# Altium schematic symbol library MY_PCBlib.SchLib: 48 symbols
Pins are listed as number, name and electrical type; pins without a type are passive.

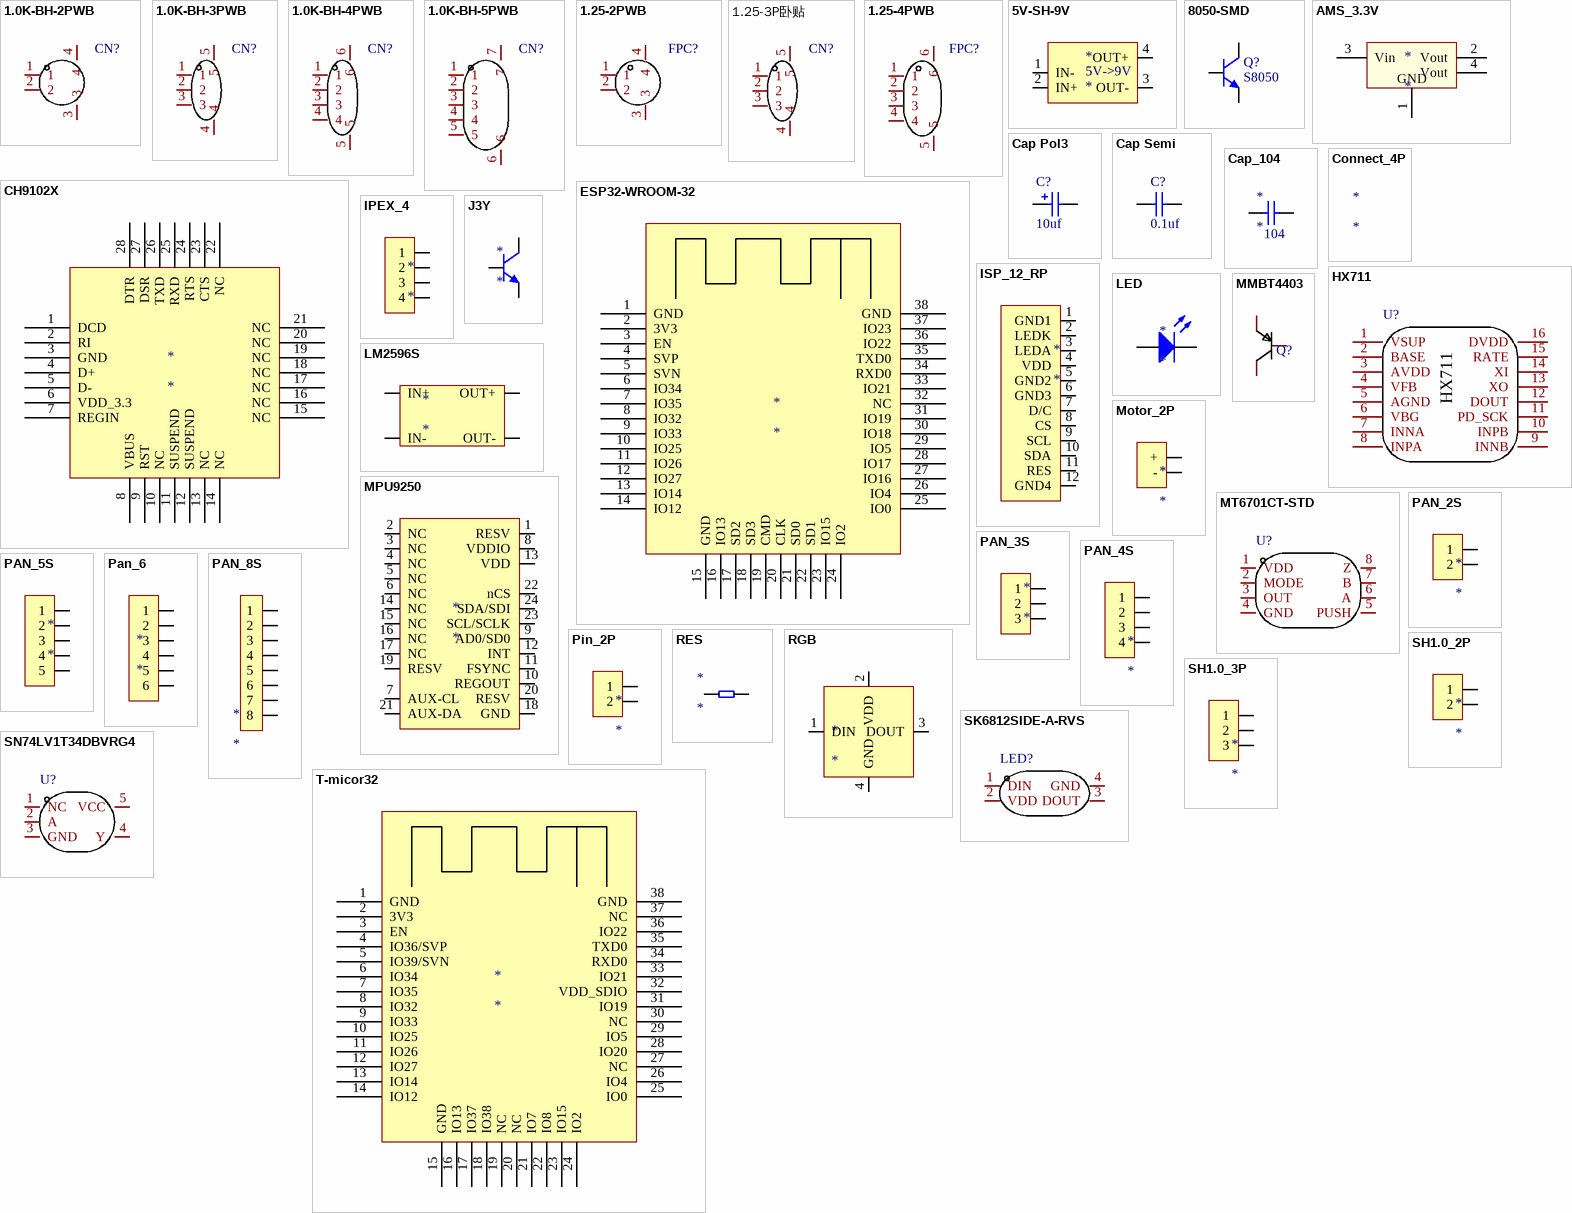
[diagram p0: symbols 1.0K-BH-2PWB to T-micor32]

## 1.0K-BH-2PWB
designator CN?  (value not drawn)
参考系列:-;间距:1mm;插针结构:1x2P;排数:1;每排PIN数:2;行距:-;公母:公型插针;安装方式:卧贴;额定电流:1A;工作温度范围:-25~+85;; Manufacturer: HDGC(华德共创); Add into BOM: yes; Pitch: 1mm; Pins Structure: 1x2P; Number of PINs Per Row: 2; Gender: 公型插针; Current Rating (Max): 1A; Name: 1.0K-BH-2PWB; Symbol: 1.0K-BH-2PWB; Device: 1.0K-BH-2PWB; LCSC Part Name: 1x2P 间距P=1.0mm 卧贴 SMT; Supplier Part: C2919603; Manufacturer Part: 1.0K-BH-2PWB; Supplier Footprint: SMD,P=1mm; Datasheet: https://atta.szlcsc.com/upload/public/pdf/source/20211115/0C4A9B301513FDEAA34F959002791CED.pdf; Supplier: LCSC; Convert to PCB: yes; Reference Series: -; Number of Rows: 1; Row Spacing: -; Mounting Style: 卧贴; Operating Temperature Range: -25~+85
footprint CONN-SMD_2P-P1.00_HDGC_1.0K-BH-2PWB
3D model CONN-SMD_2P-P1.00_HDGC_1.0K-BH-2PWB
footprint 1.00_2PWB
pins: 1, 2, 3, 4

## 1.0K-BH-3PWB
designator CN?  (value not drawn)
参考系列:-;间距:1mm;插针结构:1x3P;排数:1;每排PIN数:3;行距:-;公母:公型插针;安装方式:卧贴;额定电流:1A;工作温度范围:-25~+85;; Manufacturer: HDGC(华德共创); Add into BOM: yes; Pitch: 1mm; Pins Structure: 1x3P; Number of PINs Per Row: 3; Gender: 公型插针; Current Rating (Max): 1A; Name: 1.0K-BH-3PWB; Symbol: 1.0K-BH-3PWB; Device: 1.0K-BH-3PWB; LCSC Part Name: 1x3P 间距P=1.0mm 卧贴 SMT; Supplier Part: C2919604; Manufacturer Part: 1.0K-BH-3PWB; Supplier Footprint: SMD,P=1mm; JLCPCB Part Class: Extended Part; Datasheet: https://atta.szlcsc.com/upload/public/pdf/source/20211115/0C4A9B301513FDEAA34F959002791CED.pdf; Supplier: LCSC; Convert to PCB: yes; Reference Series: -; Number of Rows: 1; Row Spacing: -; Mounting Style: 卧贴; Operating Temperature Range: -25~+85
footprint CONN-SMD_3P-P1.00_HDGC_1.0K-BH-3PWB
3D model CONN-SMD_3P-P1.00_HDGC_1.0K-BH-3PWB
footprint 1.00_3PWB
pins: 1, 2, 3, 4, 5

## 1.0K-BH-4PWB
designator CN?  (value not drawn)
参考系列:-;间距:1mm;插针结构:1x4P;排数:1;每排PIN数:4;行距:-;公母:公型插针;安装方式:卧贴;额定电流:1A;工作温度范围:-25~+85;; Manufacturer: HDGC(华德共创); Add into BOM: yes; Pitch: 1mm; Pins Structure: 1x4P; Number of PINs Per Row: 4; Gender: 公型插针; Current Rating (Max): 1A; Name: 1.0K-BH-4PWB; Symbol: 1.0K-BH-4PWB; Device: 1.0K-BH-4PWB; LCSC Part Name: 1x4P 间距P=1.0mm 卧贴 SMT; Supplier Part: C2919605; Manufacturer Part: 1.0K-BH-4PWB; Supplier Footprint: SMD,P=1mm; JLCPCB Part Class: Extended Part; Datasheet: https://atta.szlcsc.com/upload/public/pdf/source/20211115/0C4A9B301513FDEAA34F959002791CED.pdf; Supplier: LCSC; Convert to PCB: yes; Reference Series: -; Number of Rows: 1; Row Spacing: -; Mounting Style: 卧贴; Operating Temperature Range: -25~+85
footprint CONN-SMD_4P-P1.00_HDGC_1.0K-BH-4PWB
3D model CONN-SMD_4P-P1.00_HDGC_1.0K-BH-4PWB
footprint 1.00_4PWB
pins: 1, 2, 3, 4, 5, 6

## 1.0K-BH-5PWB
designator CN?  (value not drawn)
参考系列:-;间距:1mm;插针结构:1x5P;排数:1;每排PIN数:5;行距:-;公母:公型插针;安装方式:卧贴;额定电流:1A;工作温度范围:-25~+85;; Manufacturer: HDGC(华德共创); Add into BOM: yes; Pitch: 1mm; Pins Structure: 1x5P; Number of PINs Per Row: 5; Gender: 公型插针; Current Rating (Max): 1A; Name: 1.0K-BH-5PWB; Symbol: 1.0K-BH-5PWB; Device: 1.0K-BH-5PWB; LCSC Part Name: 1x5P 间距P=1.0mm 卧贴 SMT; Supplier Part: C2919606; Manufacturer Part: 1.0K-BH-5PWB; Supplier Footprint: SMD,P=1mm; JLCPCB Part Class: Extended Part; Datasheet: https://atta.szlcsc.com/upload/public/pdf/source/20211115/0C4A9B301513FDEAA34F959002791CED.pdf; Supplier: LCSC; Convert to PCB: yes; Reference Series: -; Number of Rows: 1; Row Spacing: -; Mounting Style: 卧贴; Operating Temperature Range: -25~+85
footprint CONN-SMD_5P-P1.00_HDGC_1.0K-BH-5PWB
3D model CONN-SMD_5P-P1.00_HDGC_1.0K-BH-5PWB
footprint 1.00_5PWB
pins: 1, 2, 3, 4, 5, 6, 7

## 1.25-2PWB
designator FPC?  (value not drawn)
参考系列:-;间距:1.25mm;插针结构:1x2P;排数:1;每排PIN数:2;行距:-;公母:公型插针;安装方式:卧贴;额定电流:-;工作温度范围:-40~+85;; Manufacturer: DEALON(德艺隆); Add into BOM: yes; Pitch: 1.25mm; Pins Structure: 1x2P; Number of PINs Per Row: 2; Gender: 公型插针; Name: 1.25-2PWB; Symbol: 1.25-2PWB; Device: 1.25-2PWB; LCSC Part Name: 1.25mm 1x2P 卧贴; Supplier Part: C2905009; Manufacturer Part: 1.25-2PWB; Supplier Footprint: SMD,P=1.25mm; JLCPCB Part Class: Extended Part; Datasheet: https://atta.szlcsc.com/upload/public/pdf/source/20211025/32B11FCE5054D08D2841E43E3DE676AA.pdf; Supplier: LCSC; Convert to PCB: yes; Reference Series: -; Number of Rows: 1; Row Spacing: -; Mounting Style: 卧贴; Current Rating (Max): -; Operating Temperature Range: -40~+85
footprint CONN-SMD_2P-P1.25_DEALON_1.25-2PWB
3D model CONN-SMD_2P-P1.25_DEALON_1.25-2PWB
footprint 1.25_2PWB
pins: 1, 2, 3, 4

## 1.25-3P卧贴
designator CN?  (value not drawn)
参考系列:-;间距:1.25mm;插针结构:1x3P;排数:1;每排PIN数:3;行距:-;安装方式:-;触头材质:磷青铜;; Manufacturer: BOOMELE(博穆精密); Name: 1.25T-3P卧贴; Symbol: 1.25T-3PWT; Add into BOM: yes; Pitch: 1.25mm; Pins Structure: 1x3P; Number of PINs Per Row: 3; Device: 1.25T-3P卧贴; LCSC Part Name: 1.25T-3PWT; Supplier Part: C22075; Manufacturer Part: 1.25T-3P卧贴; Supplier Footprint: SMD,P=1.25mm; JLCPCB Part Class: Extended Part; Datasheet: https://atta.szlcsc.com/upload/public/pdf/source/20160218/1457707760133.pdf; Supplier: LCSC; Convert to PCB: yes; Reference Series: -; Number of Rows: 1; Row Spacing: -; Mounting Style: -; Contact Material: 磷青铜
footprint CONN-SMD_3P-P1.25_1.25T-3PWT
3D model CONN-SMD_MX1.25-WS-3P
footprint 1.25_3PWT
pins: 1, 2, 3, 4, 5

## 1.25-4PWB
designator FPC?  (value not drawn)
参考系列:-;间距:1.25mm;插针结构:1x4P;排数:1;每排PIN数:4;行距:-;公母:公型插针;安装方式:卧贴;额定电流:-;工作温度范围:-40~+85;; Manufacturer: DEALON(德艺隆); Add into BOM: yes; Pitch: 1.25mm; Pins Structure: 1x4P; Number of PINs Per Row: 4; Gender: 公型插针; Name: 1.25-4PWB; Symbol: 1.25-4PWB; Device: 1.25-4PWB; LCSC Part Name: 1.25mm 1x4P 卧贴; Supplier Part: C2905011; Manufacturer Part: 1.25-4PWB; Supplier Footprint: SMD,P=1.25mm; JLCPCB Part Class: Extended Part; Datasheet: https://atta.szlcsc.com/upload/public/pdf/source/20211025/32B11FCE5054D08D2841E43E3DE676AA.pdf; Supplier: LCSC; Convert to PCB: yes; Reference Series: -; Number of Rows: 1; Row Spacing: -; Mounting Style: 卧贴; Current Rating (Max): -; Operating Temperature Range: -40~+85
footprint CONN-SMD_1.25-4PWB
3D model CONN-SMD_1.25-4PWB
footprint 1.25-4PWB
pins: 1, 2, 3, 4, 5, 6

## 5V-SH-9V
designator *
footprint 5V-SH-9V
pins: 1 IN-, 2 IN+, 3 OUT-, 4 OUT+
text: 5V->9V

## 8050-SMD
designator Q?, comment S8050
高频放大-NPN型; 版权归属: 源创客; 属性: 40V 1.5A 1W 100MHZ; BOM名称: 高频放大-NPN型; 学习资源: www.ooocke.com
footprint J3Y
pins: 1 B, 2 E, 3 C

## AMS_3.3V
designator *
footprint SOT-223(AMS1117-3.3)
pins: 1 GND, 2 Vout, 3 Vin, 4 Vout

## Cap Pol3
designator C?  value 10uf  (hidden comment: Cap Pol3)
Polarized Capacitor (Surface Mount); Published: 8-Jun-2000; LatestRevisionDate: 29-May-2009; LatestRevisionNote: IPC-7351 Footprint Added.; PackageReference: C0805; Publisher: Altium Limited; PackageDescription: Chip Capacitor
footprint C0805 (Chip Capacitor, Body 2.0x1.3mm, IPC High Density)
footprint 1812 (Chip Capacitor, Body 4.5x3.2mm, IPC High Density)
footprint 1825 (Chip Capacitor, Body 4.5x6.4mm, IPC High Density)
footprint C2225 (Chip Capacitor, Body 5.7x6.4mm, IPC High Density)
footprint 2220 (Chip Capacitor, Body 5.7x5.0mm, IPC High Density)
simulation model CAP (Capacitor)
signal-integrity model Cap Pol
footprint C1206 (Chip Capacitor, Body 3.2x1.6mm, IPC High Density)
footprint R 0603_M (1/10W贴片电阻)
pins: 1, 2
1 alternate drawing of the same symbol

## Cap Semi
designator C?  value 0.1uf  (hidden comment: Cap Semi)
Capacitor (Semiconductor SIM Model); Published: 8-Jun-2000; LatestRevisionDate: 29-May-2009; LatestRevisionNote: IPC-7351 Footprint Added.; PackageReference: C1206; Publisher: Altium Limited; PackageDescription: Chip Capacitor
footprint C1206 (Chip Capacitor, Body 3.2x1.6mm, IPC High Density)
footprint 0402 (Chip Capacitor, Body 1.0x0.5mm, IPC High Density)
footprint C2512 (Chip Capacitor, Body 2.54x1.27mm, IPC High Density)
footprint 1608[0603] (Chip Capacitor, Body 1.6x0.8mm, IPC High Density)
footprint C1210 (Chip Capacitor, Body 3.2x2.5mm, IPC High Density)
simulation model CAP (Semiconductor Capacitor)
signal-integrity model Cap Semi
footprint R 0603_M (1/10W贴片电阻)
pins: 1, 2

## Cap_104
designator *
pins: 1, 2
text: 104

## CH9102X
designator *
footprint CP2102
pins: 1 DCD, 2 RI, 3 GND, 4 D+, 5 D-, 6 VDD_3.3, 7 REGIN, 8 VBUS, 9 RST, 10 NC, 11 SUSPEND, 12 SUSPEND, 13 NC, 14 NC, 15 NC, 16 NC, 17 NC, 18 NC, 19 NC, 20 NC, 21 NC, 22 NC, 23 CTS, 24 RTS, 25 RXD, 26 TXD, 27 DSR, 28 DTR

## Connect_4P
designator *

## ESP32-WROOM-32
designator *
footprint ESP32-WROOM-32D
pins: 1 GND, 2 3V3, 3 EN, 4 SVP, 5 SVN, 6 IO34, 7 IO35, 8 IO32, 9 IO33, 10 IO25, 11 IO26, 12 IO27, 13 IO14, 14 IO12, 15 GND, 16 IO13, 17 SD2, 18 SD3, 19 CMD, 20 CLK, 21 SD0, 22 SD1, 23 IO15, 24 IO2, 25 IO0, 26 IO4, 27 IO16, 28 IO17, 29 IO5, 30 IO18, 31 IO19, 32 NC, 33 IO21, 34 RXD0, 35 TXD0, 36 IO22, 37 IO23, 38 GND

## HX711
designator U?  (value not drawn)
A/D 位数:24;采样率（sps）:10,80;输入数:2;输入类型:Differential;; Manufacturer: AVIA(海芯科技); Add into BOM: yes; Number of Bits: 24; Sampling Rate (Per Second): 10,80; Number of Inputs: 2; Voltage - Supply: 2.6V~5.5V; Symbol: HX711; Device: HX711; LCSC Part Name: HX711; Supplier Part: C43656; Manufacturer Part: HX711; Supplier Footprint: SOP-16_150mil; JLCPCB Part Class: Extended Part; Datasheet: https://atta.szlcsc.com/upload/public/pdf/source/20201105/C43656_14FD91CAE53E7DB415D03EABCB162D83.pdf; Supplier: LCSC; Convert to PCB: yes; Input Type: Differential; Data Interface: -; Reference Type: -
footprint SOP-16_L10.0-W3.9-P1.27-LS6.0-BL
3D model SOP-16_L9.9-W3.9-H1.5-LS6.0-P1.27
footprint HX711
pins: 1 VSUP, 2 BASE, 3 AVDD, 4 VFB, 5 AGND, 6 VBG, 7 INNA, 8 INPA, 9 INNB, 10 INPB, 11 PD_SCK, 12 DOUT, 13 XO, 14 XI, 15 RATE, 16 DVDD

## IPEX_4
designator *
footprint IPEX_4
pins: 1, 2, 3, 4

## ISP_12_RP
designator *
footprint IPS_12_RP
pins: 1 GND1, 2 LEDK, 3 LEDA, 4 VDD, 5 GND2, 6 GND3, 7 D/C, 8 CS, 9 SCL, 10 SDA, 11 RES, 12 GND4

## J3Y
designator *
footprint J3Y
pins: 1 B, 2 E, 3 C

## LED
designator *
footprint RES-[0603]
pins: 1 A, 2 K

## LM2596S
designator *
footprint LM2596S
pins: 1 IN+, 2 IN-, 3 OUT+, 4 OUT-

## MMBT4403
designator Q?  (value not drawn)
晶体管类型:PNP;集射极击穿电压(Vceo):40V;集电极电流(Ic):600mA;功率(Pd):300mW;集电极-发射极饱和电压(VCE(sat)@Ic,Ib):400mV@150mA,15mA;直流电流增益(hFE@Ic,Vce):100@150mA,2V;特征频率(fT):200MHz;工作温度:+150@(Tj);; Manufacturer: MDD; Symbol: MMBT4403_C408395; Add into BOM: yes; Transistor Type: PNP; Collector-Emitter Breakdown Voltage (Vceo): 40V; Collector Current (Ic): 600mA; Power Dissipation (Pd): 300mW; Transition Frequency (fT): 200MHz; Device: MMBT4403; LCSC Part Name: MMBT4403; Supplier Part: C408395; Manufacturer Part: MMBT4403; Supplier Footprint: SOT-23-3; JLCPCB Part Class: Extended Part; Datasheet: https://atta.szlcsc.com/upload/public/pdf/source/20190802/C408395_FC713E69FBF1624EC30AB31C989BEA3B.pdf; Supplier: LCSC; Convert to PCB: yes; Collector-Emitter Saturation Voltage (VCE(sat)@Ic,Ib): 400mV@150mA,15mA; DC Current Gain (hFE@Ic,Vce): 100@150mA,2V; Operating Temperature: +150@(Tj)
footprint SOT-23-3_L2.9-W1.6-P1.90-LS2.8-BR
3D model SOT-23-3L_L2.9-W1.6-H1.1-LS2.8-P0.95
footprint MMBT4403
pins: 1 B, 2 E, 3 C

## Motor_2P
designator *
footprint Motor_01
pins: 1 +, 2 -

## MPU9250
designator *
footprint MPU_9250
pins: 1 RESV, 2 NC, 3 NC, 4 NC, 5 NC, 6 NC, 7 AUX-CL, 8 VDDIO, 9 AD0/SD0, 10 REGOUT, 11 FSYNC, 12 INT, 13 VDD, 14 NC, 15 NC, 16 NC, 17 NC, 18 GND, 19 RESV, 20 RESV, 21 AUX-DA, 22 nCS, 23 SCL/SCLK, 24 SDA/SDI

## MT6701CT-STD
designator U?  (value not drawn)
磁性编码器 磁性编码开关 磁性角度检测IC 可编程磁性角度位置芯片; Manufacturer: MagnTek(麦歌恩); Add into BOM: yes; Symbol: MT6701CT-STD; Device: MT6701CT-STD; LCSC Part Name: 霍尔在线编程角度位置传感器; Supplier Part: C2856764; Manufacturer Part: MT6701CT-STD; Supplier Footprint: SOP-8; JLCPCB Part Class: Extended Part; Datasheet: https://atta.szlcsc.com/upload/public/pdf/source/20210901/89396AA55DF26524CEF7734A3D9C2FB3.pdf; Supplier: LCSC; Convert to PCB: yes
footprint SOP-8_L4.9-W3.9-P1.27-LS6.0-BL
3D model SOP-8_L4.9-W3.9-P1.27-LS6.0-BL-1
footprint MT6701CT
pins: 1 VDD, 2 MODE, 3 OUT, 4 GND, 5 PUSH, 6 A, 7 B, 8 Z

## PAN_2S
designator *
pins: 1, 2

## PAN_3S
designator *
pins: 1, 2, 3

## PAN_4S
designator *
pins: 1, 2, 3, 4

## PAN_5S
designator *
footprint PAN_5S
pins: 1, 2, 3, 4, 5

## Pan_6
designator *
pins: 1, 2, 3, 4, 5, 6

## PAN_8S
designator *
pins: 1, 2, 3, 4, 5, 6, 7, 8

## Pin_2P
designator *
pins: 1, 2

## RES
designator *
footprint RES-[0603]
pins: 1, 2

## RGB
designator *
footprint RGB
pins: 1 DIN, 2 VDD, 3 DOUT, 4 GND

## SH1.0_2P
designator *
footprint SH1.0_2P
pins: 1, 2

## SH1.0_3P
designator *
footprint SH1.0_3P
pins: 1, 2, 3

## SK6812SIDE-A-RVS
designator LED?  (value not drawn)
发光颜色:RGB三色;二极管配置:-;透镜颜色:-;主波长:620nm~630nm；520nm~535nm；460nm~475nm;峰值波长:-;色温:-;光通量(25时):-;测试电流:12mA;正向电压(VF):5.2V;发光强度:450mcd；1275mcd；320mcd;功率:-;发光角度:-;安装方式:-;工作温度:-40~+85;; Manufacturer: 欧思科光电; Add into BOM: yes; Emitted Color: RGB三色; Forward Current: 12mA; Forward Voltage (VF): 5.2V; Symbol: SK6812SIDE-A-RVS; Device: SK6812SIDE-A-RVS; LCSC Part Name: RGB三色; Supplier Part: C2890037; Manufacturer Part: SK6812SIDE-A-RVS; Supplier Footprint: SMD,2x4mm; JLCPCB Part Class: Extended Part; Datasheet: https://atta.szlcsc.com/upload/public/pdf/source/20210825/5EE39C41748E35606331A2C5A4C913B6.pdf; Supplier: LCSC; Convert to PCB: yes; Diode Configuration: -; Lens Color: -; Dominant Wavelength: 620nm~630nm；520nm~535nm；460nm~475nm; Peak Wavelength: -; Color Temperature: -; Luminous Flux (@25℃): -; Luminous Intensity: 450mcd；1275mcd；320mcd; Power Dissipation: -; Viewing Angle: -; Mounting Sytle: -; Operating Temperature: -40~+85
footprint LED-SMD_4P-L4.0-W1.6-L
3D model LED-SMD_4P-L4.0-W1.6-L
footprint RGB
pins: 1 DIN, 2 VDD, 3 DOUT, 4 GND

## SN74LV1T34DBVRG4
designator U?  (value not drawn)
逻辑电路的归属系列:-;逻辑类型:-;元件数:-;每元件位数:-;; Manufacturer: TI(德州仪器); Add into BOM: yes; Symbol: SN74LV1T34DBVRG4; Device: SN74LV1T34DBVRG4; LCSC Part Name: SN74LV1T34DBVRG4; Supplier Part: C1848228; Manufacturer Part: SN74LV1T34DBVRG4; Supplier Footprint: SOT-23-5; JLCPCB Part Class: Extended Part; Datasheet: https://atta.szlcsc.comnull; Supplier: LCSC; Convert to PCB: yes; Series: -; Logic Type: -; Number of Elements: -; Number of Bits per Element: -; Input Type: -; Output Type: -; Current - Output High, Low: -; Voltage - Supply: -; Operating Temperature: -
footprint SOT-23-5_L3.0-W1.7-P0.95-LS2.8-BR
3D model SOT-23-5_L2.9-W1.6-H1.1-LS2.8-P0.95
footprint SN74LV1T34DBVR
pins: 1 NC, 2 A, 3 GND, 4 Y, 5 VCC

## T-micor32
designator *
footprint T-micro32
pins: 1 GND, 2 3V3, 3 EN, 4 IO36/SVP, 5 IO39/SVN, 6 IO34, 7 IO35, 8 IO32, 9 IO33, 10 IO25, 11 IO26, 12 IO27, 13 IO14, 14 IO12, 15 GND, 16 IO13, 17 IO37, 18 IO38, 19 NC, 20 NC, 21 IO7, 22 IO8, 23 IO15, 24 IO2, 25 IO0, 26 IO4, 27 NC, 28 IO20, 29 IO5, 30 NC, 31 IO19, 32 VDD_SDIO, 33 IO21, 34 RXD0, 35 TXD0, 36 IO22, 37 NC, 38 GND

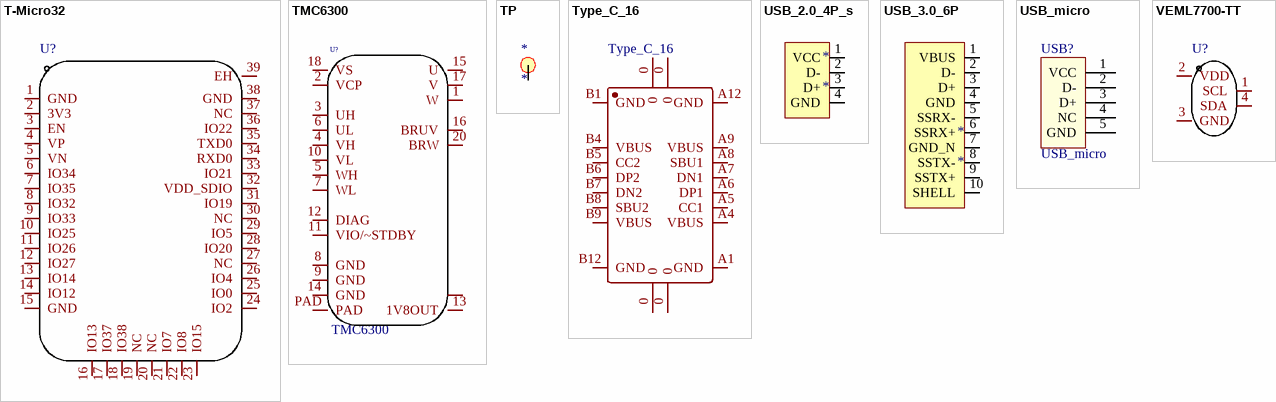
[diagram p1: symbols T-Micro32 to VEML7700-TT]

## T-Micro32
designator U?  (value not drawn)
Add into BOM: yes; Symbol: T-MICRO32; Device: T-Micro32; LCSC Part Name: T-Micro32; Supplier Part: C9900019890; Manufacturer Part: T-Micro32; Supplier Footprint: LCC-38_L18.9-W13.0-P1.00; JLCPCB Part Class: Extended Part; Datasheet: https://atta.szlcsc.comnull; Supplier: LCSC; Convert to PCB: yes
footprint COMM-SMD_LILYGO-T-MICRO32
3D model COMM-SMD_LILYGO-T-MICRO32
footprint T-micro32
pins: 1 GND, 2 3V3, 3 EN, 4 VP, 5 VN, 6 IO34, 7 IO35, 8 IO32, 9 IO33, 10 IO25, 11 IO26, 12 IO27, 13 IO14, 14 IO12, 15 GND, 16 IO13, 17 IO37, 18 IO38, 19 NC, 20 NC, 21 IO7, 22 IO8, 23 IO15, 24 IO2, 25 IO0, 26 IO4, 27 NC, 28 IO20, 29 IO5, 30 NC, 31 IO19, 32 VDD_SDIO, 33 IO21, 34 RXD0, 35 TXD0, 36 IO22, 37 NC, 38 GND, 39 EH

## TMC6300
designator U?
Add into BOM: yes; Symbol: TMC6300; Device: TMC6300; Convert to PCB: yes; Value: TMC6300
footprint QFN-20-1EP_3x3mm_P0.4mm_EP1.65x1.65mm_ThermalVias_LargerViaHoles
footprint TMC6300
pins: 1 W, 2 VCP, 3 UH, 4 VH, 5 WH, 6 UL, 7 WL, 8 GND, 9 GND, 10 VL, 11 VIO/~STDBY, 12 DIAG, 13 1V8OUT, 14 GND, 15 U, 16 BRUV, 17 V, 18 VS, 19 NC, 20 BRW, PAD

## TP
designator *
pins: 1

## Type_C_16
designator U?
footprint Type_C_16
pins: 0, 0, 0, 0, A1 GND, A4 VBUS, A5 CC1, A6 DP1, A7 DN1, A8 SBU1, A9 VBUS, A12 GND, B1 GND, B4 VBUS, B5 CC2, B6 DP2, B7 DN2, B8 SBU2, B9 VBUS, B12 GND

## USB_2.0_4P_s
designator *
footprint USB_2.0_4P_s
pins: 1 VCC, 2 D-, 3 D+, 4 GND

## USB_3.0_6P
designator *
footprint USB_3.0_6P
pins: 1 VBUS, 2 D-, 3 D+, 4 GND, 5 SSRX-, 6 SSRX+, 7 GND_N, 8 SSTX-, 9 SSTX+, 10 SHELL

## USB_micro
designator USB?
footprint USB B MINI 5PIN
pins: 1 VCC, 2 D-, 3 D+, 4 NC, 5 GND

## VEML7700-TT
designator U?  (value not drawn)
类型:-;波长:-;近距离探测:-;输出类型:-;; Manufacturer: VISHAY(威世); Add into BOM: yes; Symbol: VEML7700-TT; Device: VEML7700-TT; LCSC Part Name: VEML7700 TT; Supplier Part: C1850416; Manufacturer Part: VEML7700-TT; Supplier Footprint: SMD-4; JLCPCB Part Class: Extended Part; Datasheet: https://atta.szlcsc.com/upload/public/pdf/source/20210427/33543220A77474D84AA8ADAB59D35BD6.pdf; Supplier: LCSC; Convert to PCB: yes; Type: -; Wavelength: -; Proximity Detection: -; Output Type: -; Voltage - Supply: -; Operating Temperature: -
footprint SENSOR-SMD_EML7700-TT
3D model SENSOR-SMD_EML7700-TT
footprint VEML7700
pins: 1 SCL, 2 VDD, 3 GND, 4 SDA